# EAGLE library part CLOCK-CRYSTAL-SPECIAL-1 (library mylib)
CLOCK SOURCE : CERALOCK / CRYSTAL
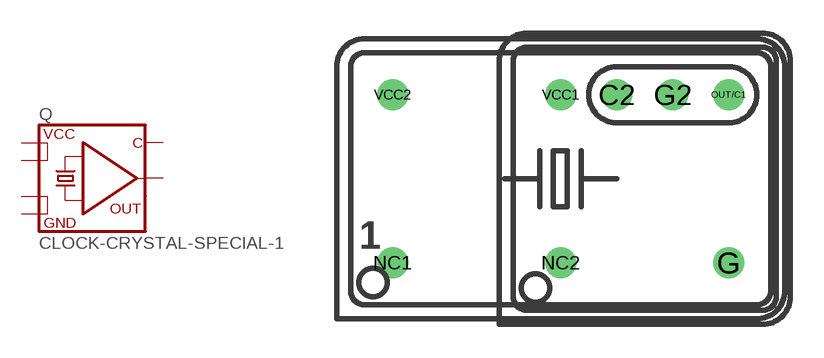
[diagram p12: symbol with the pads of CLOCK-DIL14S; footprint CLOCK-DIL14S]

Designator prefix Q

## CLOCK-CRYSTAL-SPECIAL-1  [CLOCK-DIL14S]
C2  C
G  GND
G2  GND
OUT/C1  OUT
VCC1  VCC
VCC2  VCC

## Footprint CLOCK-DIL14S (pad centres in mm)
CRYSTAL RESONATOR
drill 0.889: C2 2.54,3.81; G 7.62,-3.81; G2 5.08,3.81; NC1 -7.62,-3.81; NC2 0,-3.81; OUT/C1 7.62,3.81; VCC1 0,3.81; VCC2 -7.62,3.81